# Altium schematic symbol library 0805 10uF 10V.Schlib: 1 symbol
Pins are listed as number, name and electrical type; pins without a type are passive.

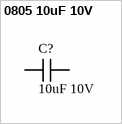
[diagram p0: symbol 0805 10uF 10V]

## 0805 10uF 10V
designator C?, comment value 10uF 10V  (hidden comment: Capacitor)
10uF ±10% 10V X7R 0805 Multilayer Ceramic Capacitors MLCC - SMD/SMT RoHS; LCSC Part #: C117956; JLCPCB Part Type: Extended
footprint CAP 0805_2012 (Chip Capacitor, 2-Leads, Body 2.00x1.20mm, IPC Medium Density)
pins: 1, 2